# Altium schematic symbol library User Interface.SchLib: 1 symbol
Pins are listed as number, name and electrical type; pins without a type are passive.

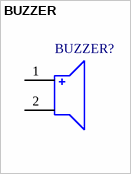
[diagram p0: symbol BUZZER]

## BUZZER
designator BUZZER?
pins: 1, 2